# EAGLE library part MAX7310 (library U-Maxim-MAX7310-I2C-GPIO-expander)
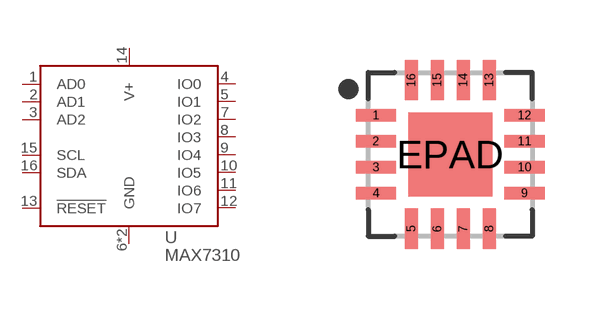
[diagram p0: symbol with the pads of QFN65P400X400X80-17T210; footprint QFN65P400X400X80-17T210]

Designator prefix U

## MAX7310 (DPN: MAX7310ATE+-ND; MPN: MAX7310ATE+)  [QFN65P400X400X80-17T210]
1  AD0  in
2  AD1  in
3  AD2  in
4  IO0
5  IO1
6  GND  pwr
7  IO2
8  IO3
9  IO4
10  IO5
11  IO6
12  IO7
13  !RESET  in
14  V+  pwr
15  SCL  in
16  SDA
EPAD  GND  pwr

## Footprint QFN65P400X400X80-17T210 (pad centres in mm)
16-QFN, 0.65 mm pitch, 4.00 X 4.00 X 0.80 mm body, 2.10 X 2.10 mm thermal pad 16-pin QFN package with 0.65 mm pitch with body size 4.00 X 4.00 X 0.80 mm and thermal pad size 2.10 X 2.10 mm
smd 1.01 x 0.32: 1 -1.86,0.975; 2 -1.86,0.325; 3 -1.86,-0.325; 4 -1.86,-0.975; 9 1.86,-0.975; 10 1.86,-0.325; 11 1.86,0.325; 12 1.86,0.975
smd 0.32 x 1.01: 5 -0.975,-1.86; 6 -0.325,-1.86; 7 0.325,-1.86; 8 0.975,-1.86; 13 0.975,1.86; 14 0.325,1.86; 15 -0.325,1.86; 16 -0.975,1.86
smd 2.1 x 2.1: EPAD 0,0